# Altium footprint library A-DF 09 A_KG-T2S.PcbLib: 1 footprints
Each footprint in its own frame and in the unit in brackets; x right, y up, seen from the top. Pads: shape width x height; smd on the part's side, far side on the other; paste and mask are expansions set on the pad; w line width, h text height; cw(c..) or ccw(c..) is an arc to the next point about the centre after c.
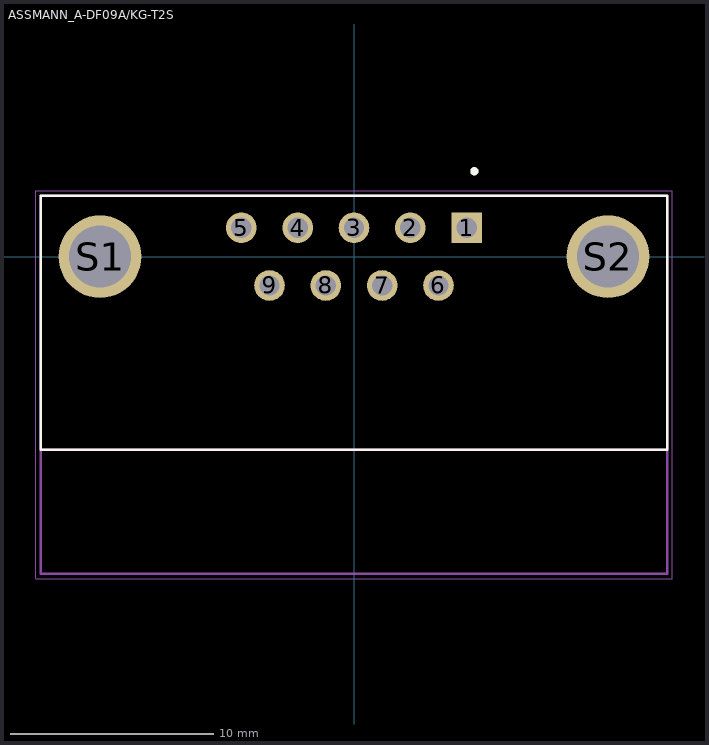
[diagram p0: the footprint, top view; thin cyan lines are the x and y axes]

## ASSMANN_A-DF09A/KG-T2S [mm]
pads (11):
  rect 1.508x1.508 hole 1: 1(5.54,1.42)
  round 1.508 hole 1: 2(2.77,1.42) 3(0,1.42) 4(-2.77,1.42) 5(-5.54,1.42) 6(4.155,-1.42) 7(1.385,-1.42) 8(-1.385,-1.42) 9(-4.155,-1.42)
  round 4.066 hole 3.05: S1(-12.495,0) S2(12.495,0)
Top Overlay:
  circle w0.2: c5.92,4.2 r0.1
  lines w0.127: -15.405,-9.5 15.405,-9.5 15.405,3 -15.405,3 -15.405,-9.5
Mechanical 13:
  circle w0.2: c5.92,4.2 r0.1
  lines w0.127: -15.405,-9.5 15.405,-9.5 ; -15.405,-15.6 15.405,-15.6 15.405,3 -15.405,3 -15.405,-15.6
Mechanical 15:
  lines w0.05: -15.655,-15.85 15.655,-15.85 15.655,3.25 -15.655,3.25 -15.655,-15.85